# EAGLE library part D*?SURKWA (library Display_LED)
Dual Digit Numeric Display - 7SEG, 0.8" Character size, RED, 18DIP, THT Datasheet-DA08-11SURKWA <https://www.kingbrightusa.com/images/catalog/SPEC/DA08-11SURKWA.pdf> Datasheet-DC08-11SURKWA <https://www.kingbrightusa.com/images/catalog/SPEC/DC08-11SURKWA.pdf> Datasheet-DA56-11SURKWA <https://www.kingbrightusa.com/images/catalog/SPEC/DA56-11SURKWA.pdf> Datasheet-DC56-11SURKWA <https://www.kingbrightusa.com/images/catalog/SPEC/DC56-11SURKWA.pdf> Datasheet-DA56-51SURKWA <https://www.kingbrightusa.com/images/catalog/SPEC/DA56-51SURKWA.pdf> Datasheet-DC56-51SURKWA <https://www.kingbrightusa.com/images/catalog/SPEC/DC56-51SURKWA.pdf>
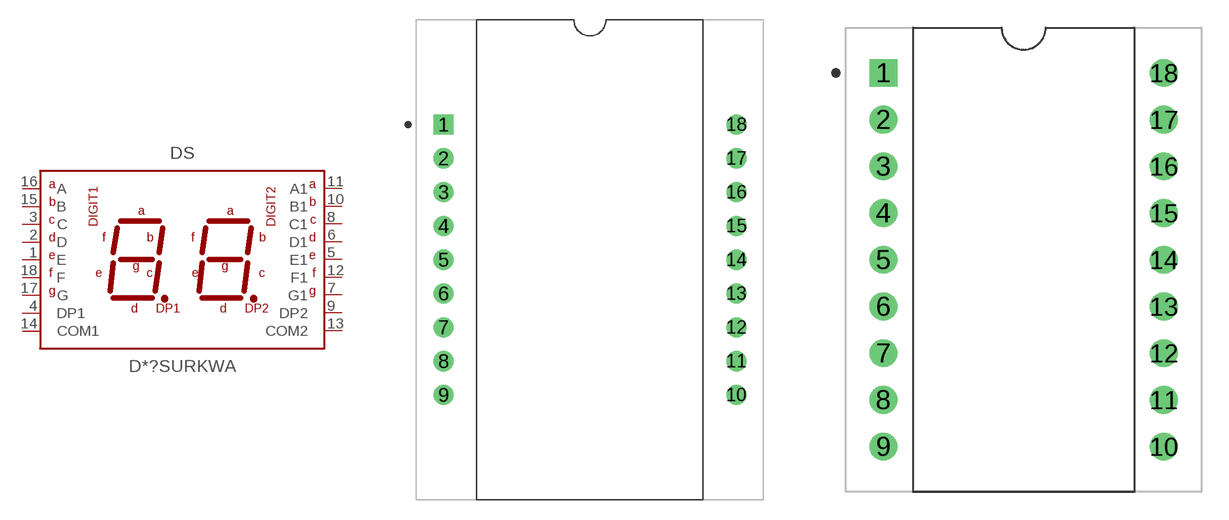
[diagram p6: symbol with the pads of D08-11SURKWA; footprints D08-11SURKWA, D56-11SURKWA]

Designator prefix DS

## DA08-11SURKWA (CATEGORY: DISPLAY; COLOR: Hyper Red (AlGaInP); CONFIGURATION: Common anode; DESCRIPTION: 20.3 mm (0.8 inch) Dual Digit Numeric Display in Common Anode Configuration; DIGIT: Dual Digit; MANUFACTURER: Kingbright; MPN: DA08-11SURKWA; OPERATING_TEMP: -40°C to +85 °C; PART_STATUS: Active; ROHS_COMPLIANT: COMPLIANT; SERIES: -; SUB-CATEGORY: LED; THERMALLOSS: 0.075 W; TYPE: 7 Segment; VALUE: DA08-11SURKWA), DC08-11SURKWA (CATEGORY: DISPLAY; COLOR: Hyper Red (AlGaInP); CONFIGURATION: Common cathode; DESCRIPTION: 20.3 mm (0.8 inch) Dual Digit Numeric Display in Common Cathode Configuration; DIGIT: Dual Digit; MANUFACTURER: Kingbright; MPN: DC08-11SURKWA; OPERATING_TEMP: -40°C to +85 °C; PART_STATUS: Active; ROHS_COMPLIANT: COMPLIANT; SERIES: -; SUB-CATEGORY: LED; THERMALLOSS: 0.075 W; TYPE: 7 Segment; VALUE: DA08-11SURKWA)  [D08-11SURKWA]
1  E  pas
2  D  pas
3  C  pas
4  DP1  pas
5  E1  pas
6  D1  pas
7  G1  pas
8  C1  pas
9  DP2  pas
10  B1  pas
11  A1  pas
12  F1  pas
13  COM2  pas
14  COM1  pas
15  B  pas
16  A  pas
17  G  pas
18  F  pas

## DA56-11SURKWA (CATEGORY: DISPLAY; COLOR: Hyper Red (AlGaInP); CONFIGURATION: Common Anode; DESCRIPTION: 14.22 mm (0.56 inch) Dual Digit Numeric Display in Common Anode Configuration; DIGIT: Dual Dgit; MANUFACTURER: Kingbright; MPN: DA56-11SURKWA; OPERATING_TEMP: -40°C to +85 °C; PART_STATUS: ACTIVE; ROHS_COMPLIANT: COMPLIANT; SERIES: -; SUB-CATEGORY: LED; THERMALLOSS: 0.075 W; TYPE: 7 Segment; VALUE: DA56-11SURKWA), DC56-11SURKWA (CATEGORY: DISPLAY; COLOR: Hyper Red (AlGaInP); CONFIGURATION: Common cathode; DESCRIPTION: 14.22 mm (0.56 inch) Dual Digit Numeric Display in Common Cathode Configuration; DIGIT: Dual Dgit; MANUFACTURER: Kingbright; MPN: DC56-11SURKWA; OPERATING_TEMP: -40°C to +85 °C; PART_STATUS: ACTIVE; ROHS_COMPLIANT: COMPLIANT; SERIES: -; SUB-CATEGORY: LED; THERMALLOSS: 0.075 W; TYPE: 7 Segment; VALUE: DA56-11SURKWA)  [D56-11SURKWA]
Pads as for D08-11SURKWA

## DA56-51SURKWA (CATEGORY: DISPLAY; COLOR: Hyper Red (AlGaInP); CONFIGURATION: Common anode; DESCRIPTION: 14.22 mm (0.56 inch) Dual Digit Numeric Display in Common Anode Configuration; DIGIT: Dual Digit; MANUFACTURER: Kingbright; MPN: DA56-51SURKWA; OPERATING_TEMP: -40°C to +85 °C; PART_STATUS: Active; ROHS_COMPLIANT: COMPLIANT; SERIES: -; SUB-CATEGORY: LED; THERMALLOSS: 0.075 W; TYPE: 7 Segment; VALUE: DA56-51SURKWA), DC56-51SURKWA (CATEGORY: DISPLAY; COLOR: Hyper Red (AlGaInP); CONFIGURATION: Common Cathode; DESCRIPTION: 14.22 mm (0.56 inch) Dual Digit Numeric Display in Common Cathode Configuration; DIGIT: Dual Digit; MANUFACTURER: Kingbright; MPN: DC56-51SURKWA; OPERATING_TEMP: -40°C to +85 °C; PART_STATUS: Active; ROHS_COMPLIANT: COMPLIANT; SERIES: -; SUB-CATEGORY: LED; THERMALLOSS: 0.075 W; TYPE: 7 Segment; VALUE: DA56-51SURKWA)  [D56-51SURKWA]
Pads as for D08-11SURKWA

## Footprint D08-11SURKWA (pad centres in mm)
drill 1 square: 1 0,0
drill 1: 2 0,-2.54; 3 0,-5.08; 4 0,-7.62; 5 0,-10.16; 6 0,-12.7; 7 0,-15.24; 8 0,-17.78; 9 0,-20.32; 10 22,-20.32; 11 22,-17.78; 12 22,-15.24; 13 22,-12.7; 14 22,-10.16; 15 22,-7.62; 16 22,-5.08; 17 22,-2.54; 18 22,0

## Footprint D56-11SURKWA (pad centres in mm)
drill 1 square: 1 0,0
drill 1: 2 0,-2.54; 3 0,-5.08; 4 0,-7.62; 5 0,-10.16; 6 0,-12.7; 7 0,-15.24; 8 0,-17.78; 9 0,-20.32; 10 15.24,-20.32; 11 15.24,-17.78; 12 15.24,-15.24; 13 15.24,-12.7; 14 15.24,-10.16; 15 15.24,-7.62; 16 15.24,-5.08; 17 15.24,-2.54; 18 15.24,0

## Footprint D56-51SURKWA (pad centres in mm)
drill 1 square: 1 0,0
drill 1: 2 0,-2.54; 3 0,-5.08; 4 0,-7.62; 5 0,-10.16; 6 0,-12.7; 7 0,-15.24; 8 0,-17.78; 9 0,-20.32; 10 15.24,-20.32; 11 15.24,-17.78; 12 15.24,-15.24; 13 15.24,-12.7; 14 15.24,-10.16; 15 15.24,-7.62; 16 15.24,-5.08; 17 15.24,-2.54; 18 15.24,0